# Altium footprint library DIP14 IC Socket.PcbLib: 1 footprints
Each footprint in its own frame and in the unit in brackets; x right, y up, seen from the top. Pads: shape width x height; smd on the part's side, far side on the other; paste and mask are expansions set on the pad; w line width, h text height; cw(c..) or ccw(c..) is an arc to the next point about the centre after c.
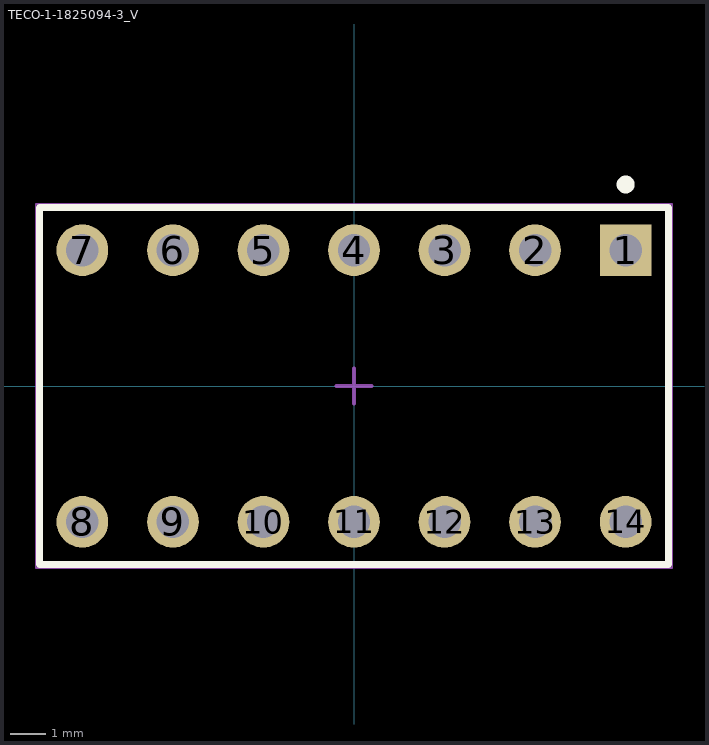
[diagram p0: the footprint, top view; thin cyan lines are the x and y axes]

## TECO-1-1825094-3_V [mm] "Socket, 14-Leads, Body 17.653x10.0076mm, Pitch 2.54mm"
height 5.359
pads (14):
  rect 1.45x1.45 hole 0.911: 1(7.62,3.81)
  round 1.45 hole 0.911: 2(5.08,3.81) 3(2.54,3.81) 4(0,3.81) 5(-2.54,3.81) 6(-5.08,3.81) 7(-7.62,3.81) 8(-7.62,-3.81) 9(-5.08,-3.81) 10(-2.54,-3.81) 11(0,-3.81) 12(2.54,-3.81) 13(5.08,-3.81) 14(7.62,-3.81)
Top Overlay:
  circle w0.25: c7.62,5.654 r0.125
  lines w0.2: -8.826,-5.004 -8.826,5.004 8.826,5.004 8.826,-5.004 -8.826,-5.004
Mechanical 13:
  lines w0.1: -8.826,-5.004 8.826,-5.004 8.826,5.004 -8.826,5.004 -8.826,-5.004
Mechanical 15:
  lines w0.05: -8.926,-5.104 8.926,-5.104 8.926,5.104 -8.926,5.104 -8.926,-5.104
  lines w0.1: -0.5,0 0.5,0 ; 0,-0.5 0,0.5
3D body: height 5.36, standoff 0, extent -8.826,-5.004 8.826,5.004